# Altium schematic symbol library SCH - MPU - TI - TI AM62Px AMH.SchLib: 1 symbol
Pins are listed as number, name and electrical type; pins without a type are passive.

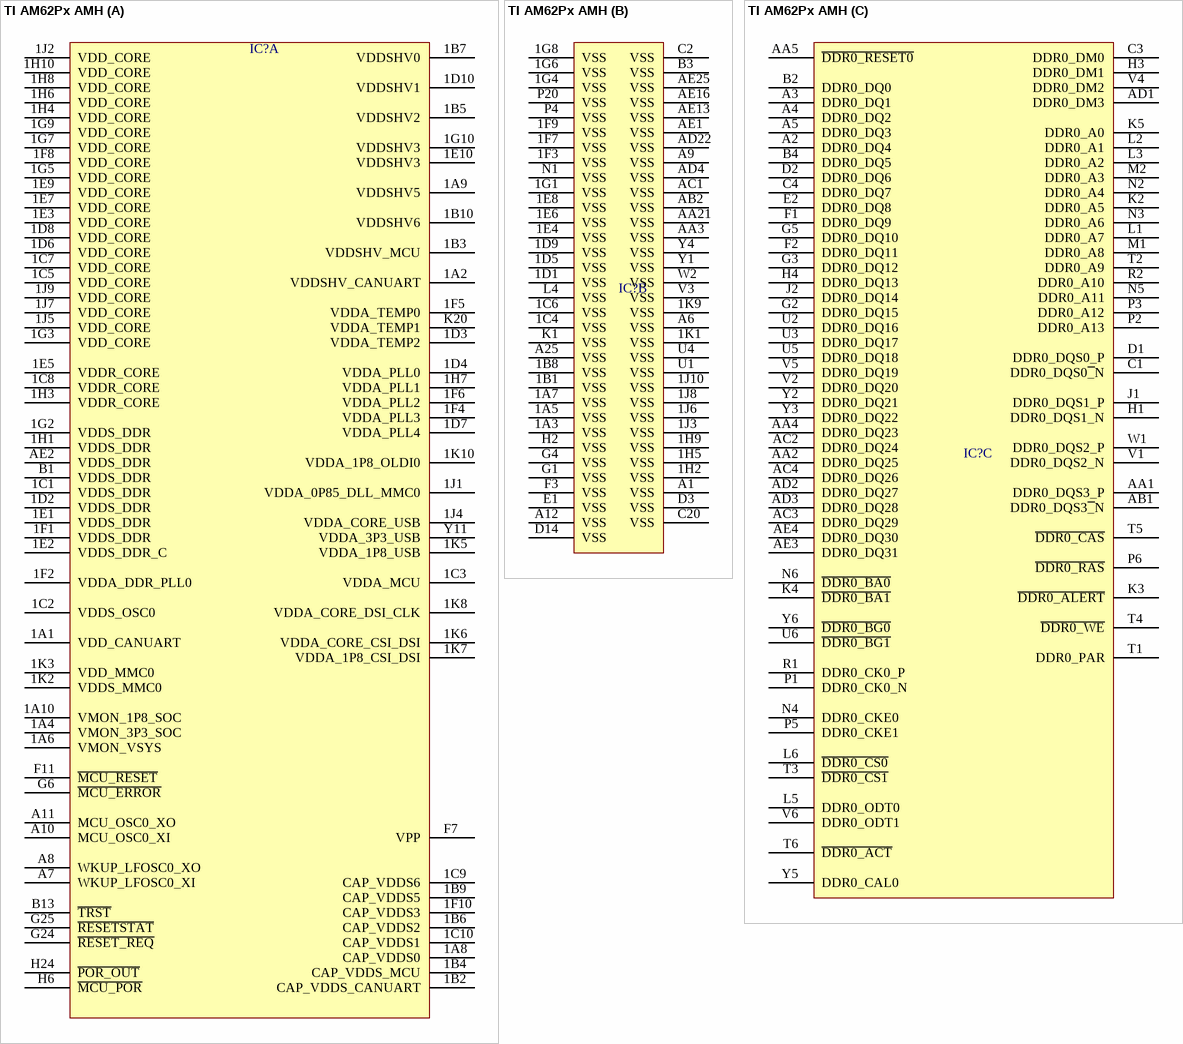
[diagram p0: symbol TI AM62Px AMH]

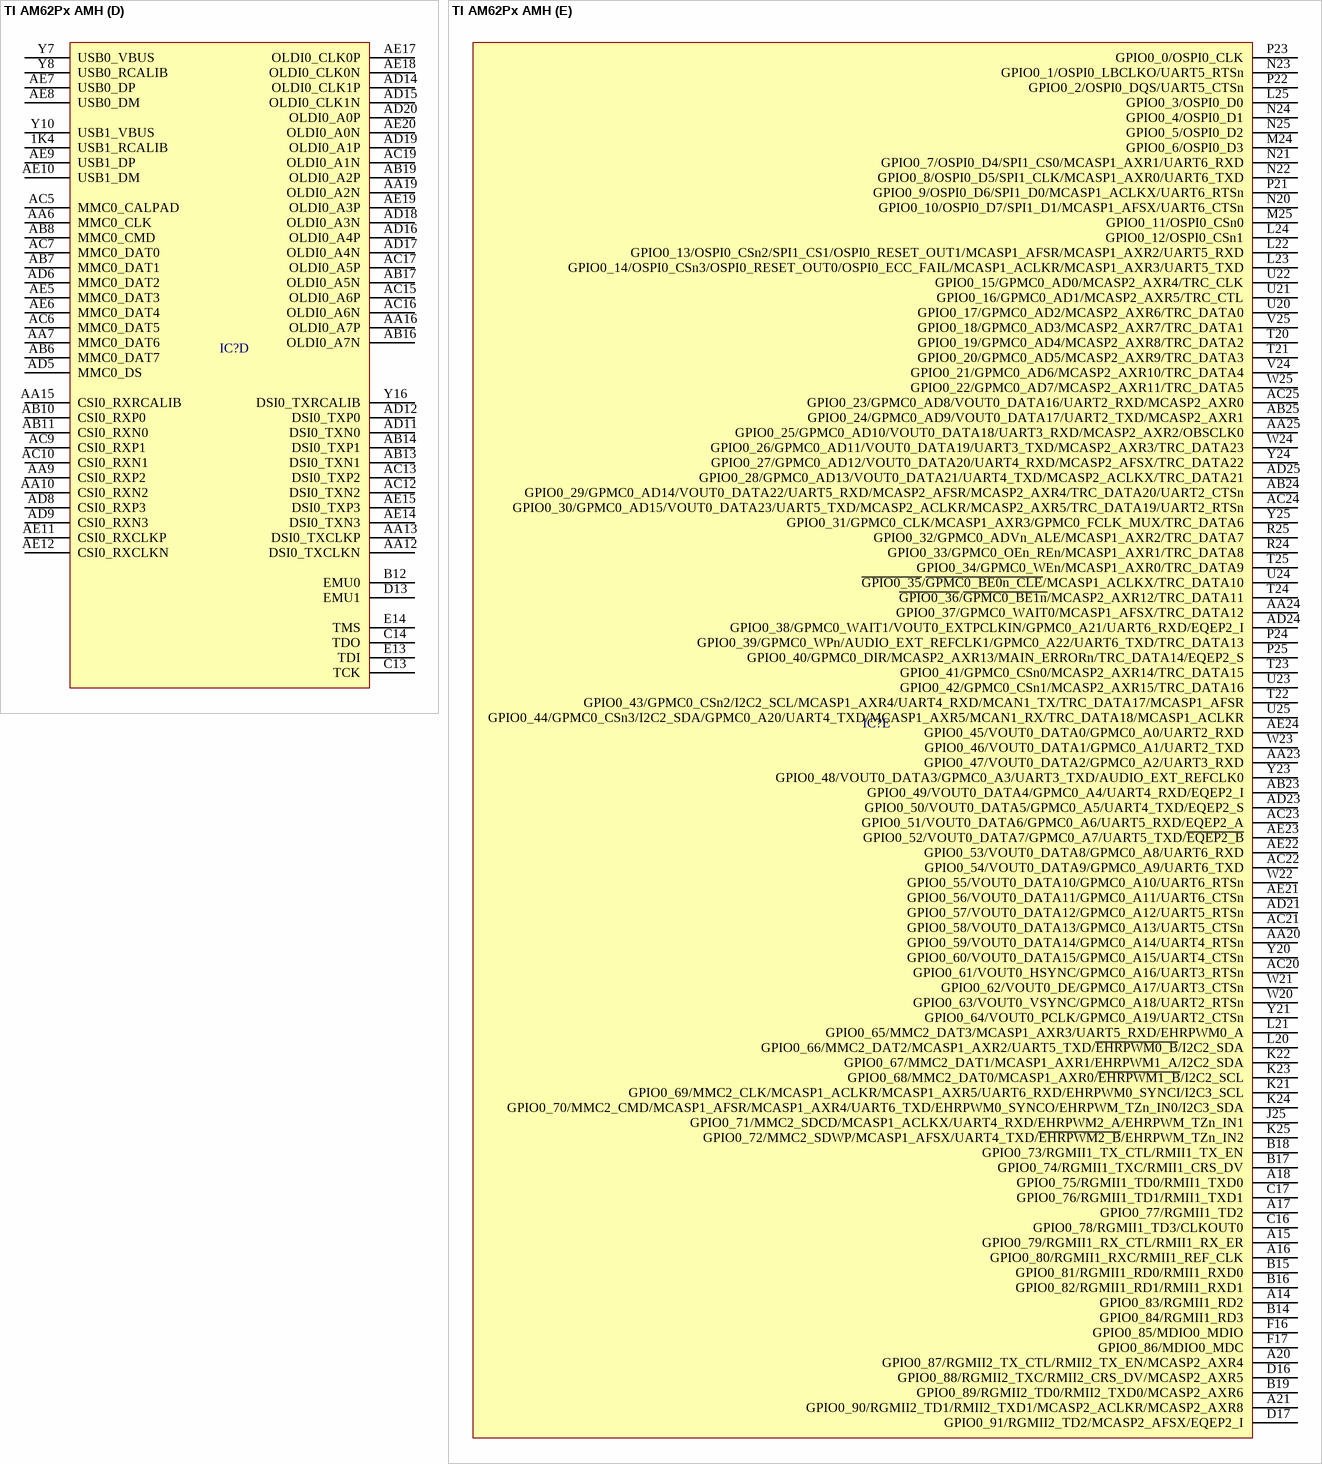
[diagram p1: symbol TI AM62Px AMH]

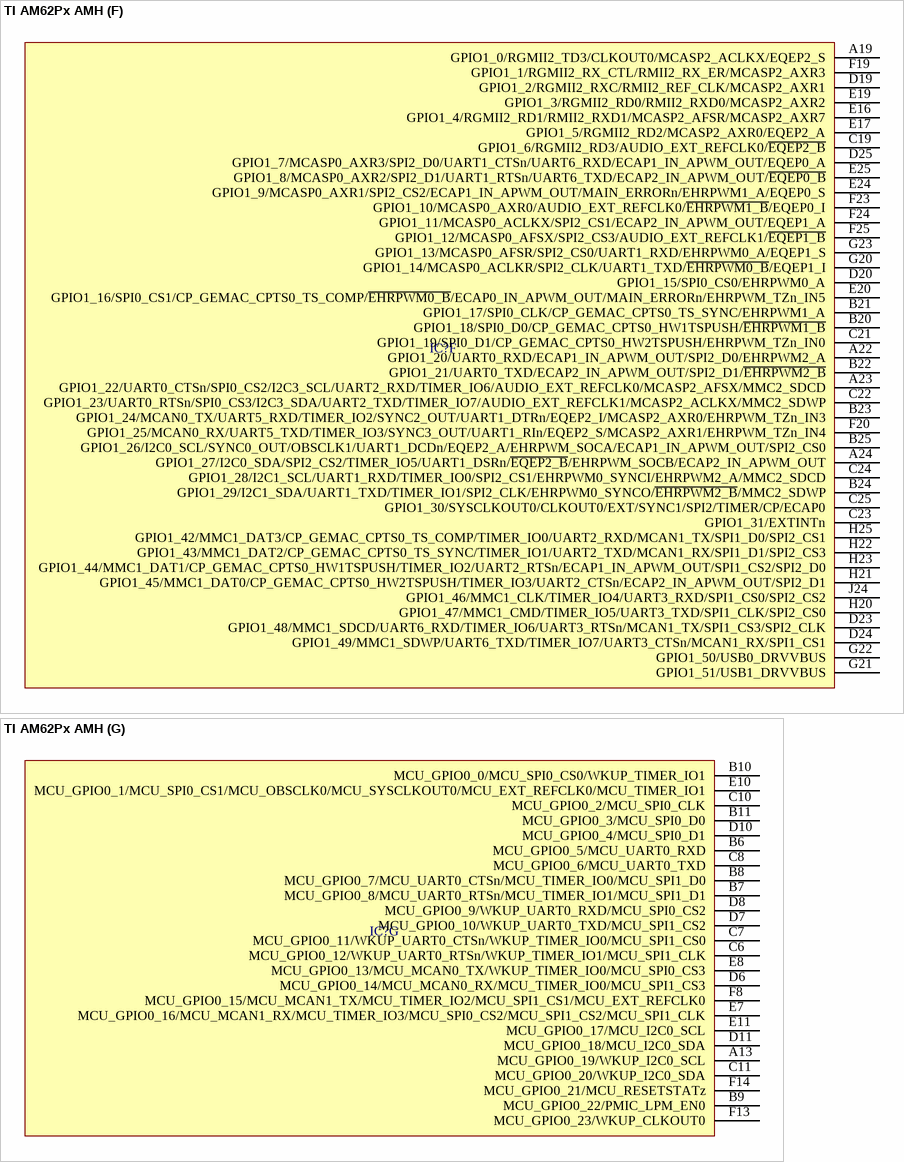
[diagram p2: symbol TI AM62Px AMH]

## TI AM62Px AMH
designator IC?
part A pins: 1A1 VDD_CANUART, 1A2 VDDSHV_CANUART, 1A4 VMON_3P3_SOC, 1A6 VMON_VSYS, 1A8 CAP_VDDS0, 1A9 VDDSHV5, 1A10 VMON_1P8_SOC, 1B2 CAP_VDDS_CANUART, 1B3 VDDSHV_MCU, 1B4 CAP_VDDS_MCU, 1B5 VDDSHV2, 1B6 CAP_VDDS2, 1B7 VDDSHV0, 1B9 CAP_VDDS5, 1B10 VDDSHV6, 1C1 VDDS_DDR, 1C2 VDDS_OSC0, 1C3 VDDA_MCU, 1C5 VDD_CORE, 1C7 VDD_CORE, 1C8 VDDR_CORE, 1C9 CAP_VDDS6, 1C10 CAP_VDDS1, 1D2 VDDS_DDR, 1D3 VDDA_TEMP2, 1D4 VDDA_PLL0, 1D6 VDD_CORE, 1D7 VDDA_PLL4, 1D8 VDD_CORE, 1D10 VDDSHV1, 1E1 VDDS_DDR, 1E2 VDDS_DDR_C, 1E3 VDD_CORE, 1E5 VDDR_CORE, 1E7 VDD_CORE, 1E9 VDD_CORE, 1E10 VDDSHV3, 1F1 VDDS_DDR, 1F2 VDDA_DDR_PLL0, 1F4 VDDA_PLL3, 1F5 VDDA_TEMP0, 1F6 VDDA_PLL2, 1F8 VDD_CORE, 1F10 CAP_VDDS3, 1G2 VDDS_DDR, 1G3 VDD_CORE, 1G5 VDD_CORE, 1G7 VDD_CORE, 1G9 VDD_CORE, 1G10 VDDSHV3, 1H1 VDDS_DDR, 1H3 VDDR_CORE, 1H4 VDD_CORE, 1H6 VDD_CORE, 1H7 VDDA_PLL1, 1H8 VDD_CORE, 1H10 VDD_CORE, 1J1 VDDA_0P85_DLL_MMC0, 1J2 VDD_CORE, 1J4 VDDA_CORE_USB, 1J5 VDD_CORE, 1J7 VDD_CORE, 1J9 VDD_CORE, 1K2 VDDS_MMC0, 1K3 VDD_MMC0, 1K5 VDDA_1P8_USB, 1K6 VDDA_CORE_CSI_DSI, 1K7 VDDA_1P8_CSI_DSI, 1K8 VDDA_CORE_DSI_CLK, 1K10 VDDA_1P8_OLDI0, A7 WKUP_LFOSC0_XI, A8 WKUP_LFOSC0_XO, A10 MCU_OSC0_XI, A11 MCU_OSC0_XO, AE2 VDDS_DDR, B1 VDDS_DDR, B13 ~{TRST}, F7 VPP, F11 ~{MCU_RESET}, G6 ~{MCU_ERROR}, G24 ~{RESET_REQ}, G25 ~{RESETSTAT}, H6 ~{MCU_POR}, H24 ~{POR_OUT}, K20 VDDA_TEMP1, Y11 VDDA_3P3_USB
part B pins: 1A3 VSS, 1A5 VSS, 1A7 VSS, 1B1 VSS, 1B8 VSS, 1C4 VSS, 1C6 VSS, 1D1 VSS, 1D5 VSS, 1D9 VSS, 1E4 VSS, 1E6 VSS, 1E8 VSS, 1F3 VSS, 1F7 VSS, 1F9 VSS, 1G1 VSS, 1G4 VSS, 1G6 VSS, 1G8 VSS, 1H2 VSS, 1H5 VSS, 1H9 VSS, 1J3 VSS, 1J6 VSS, 1J8 VSS, 1J10 VSS, 1K1 VSS, 1K9 VSS, A1 VSS, A6 VSS, A9 VSS, A12 VSS, A25 VSS, AA3 VSS, AA21 VSS, AB2 VSS, AC1 VSS, AD4 VSS, AD22 VSS, AE1 VSS, AE13 VSS, AE16 VSS, AE25 VSS, B3 VSS, C2 VSS, C20 VSS, D3 VSS, D14 VSS, E1 VSS, F3 VSS, G1 VSS, G4 VSS, H2 VSS, K1 VSS, L4 VSS, N1 VSS, P4 VSS, P20 VSS, U1 VSS, U4 VSS, V3 VSS, W2 VSS, Y1 VSS, Y4 VSS
part C pins: A2 DDR0_DQ4, A3 DDR0_DQ1, A4 DDR0_DQ2, A5 DDR0_DQ3, AA1 DDR0_DQS3_P, AA2 DDR0_DQ25, AA4 DDR0_DQ23, AA5 ~{DDR0_RESET0}, AB1 DDR0_DQS3~{_}N, AC2 DDR0_DQ24, AC3 DDR0_DQ29, AC4 DDR0_DQ26, AD1 DDR0_DM3, AD2 DDR0_DQ27, AD3 DDR0_DQ28, AE3 DDR0_DQ31, AE4 DDR0_DQ30, B2 DDR0_DQ0, B4 DDR0_DQ5, C1 DDR0_DQS0~{_}N, C3 DDR0_DM0, C4 DDR0_DQ7, D1 DDR0_DQS0_P, D2 DDR0_DQ6, E2 DDR0_DQ8, F1 DDR0_DQ9, F2 DDR0_DQ11, G2 DDR0_DQ15, G3 DDR0_DQ12, G5 DDR0_DQ10, H1 DDR0_DQS1_N, H3 DDR0_DM1, H4 DDR0_DQ13, J1 DDR0_DQS1_P, J2 DDR0_DQ14, K2 DDR0_A5, K3 ~{DDR0_ALERT}, K4 ~{DDR0_BA1}, K5 DDR0_A0, L1 DDR0_A7, L2 DDR0_A1, L3 DDR0_A2, L5 DDR0_ODT0, L6 ~{DDR0_CS0}, M1 DDR0_A8, M2 DDR0_A3, N2 DDR0_A4, N3 DDR0_A6, N4 DDR0_CKE0, N5 DDR0_A11, N6 ~{DDR0_BA0}, P1 DDR0_CK0_N, P2 DDR0_A13, P3 DDR0_A12, P5 DDR0_CKE1, P6 ~{DDR0_RAS}, R1 DDR0_CK0_P, R2 DDR0_A10, T1 DDR0_PAR, T2 DDR0_A9, T3 ~{DDR0_CS1}, T4 ~{DDR0_WE}, T5 ~{DDR0_CAS}, T6 ~{DDR0_ACT}, U2 DDR0_DQ16, U3 DDR0_DQ17, U5 DDR0_DQ18, U6 ~{DDR0_BG1}, V1 DDR0_DQS2_N, V2 DDR0_DQ20, V4 DDR0_DM2, V5 DDR0_DQ19, V6 DDR0_ODT1, W1 DDR0_DQS2_P, Y2 DDR0_DQ21, Y3 DDR0_DQ22, Y5 DDR0_CAL0, Y6 ~{DDR0_BG0}
part D pins: 1K4 USB1_RCALIB, AA6 MMC0_CLK, AA7 MMC0_DAT6, AA9 CSI0_RXP2, AA10 CSI0_RXN2, AA12 DSI0_TXCLKN, AA13 DSI0_TXCLKP, AA15 CSI0_RXRCALIB, AA16 OLDI0_A7P, AA19 OLDI0_A2N, AB6 MMC0_DAT7, AB7 MMC0_DAT1, AB8 MMC0_CMD, AB10 CSI0_RXP0, AB11 CSI0_RXN0, AB13 DSI0_TXN1, AB14 DSI0_TXP1, AB16 OLDI0_A7N, AB17 OLDI0_A5N, AB19 OLDI0_A2P, AC5 MMC0_CALPAD, AC6 MMC0_DAT5, AC7 MMC0_DAT0, AC9 CSI0_RXP1, AC10 CSI0_RXN1, AC12 DSI0_TXN2, AC13 DSI0_TXP2, AC15 OLDI0_A6P, AC16 OLDI0_A6N, AC17 OLDI0_A5P, AC19 OLDI0_A1N, AD5 MMC0_DS, AD6 MMC0_DAT2, AD8 CSI0_RXP3, AD9 CSI0_RXN3, AD11 DSI0_TXN0, AD12 DSI0_TXP0, AD14 OLDI0_CLK1P, AD15 OLDI0_CLK1N, AD16 OLDI0_A4P, AD17 OLDI0_A4N, AD18 OLDI0_A3N, AD19 OLDI0_A1P, AD20 OLDI0_A0P, AE5 MMC0_DAT3, AE6 MMC0_DAT4, AE7 USB0_DP, AE8 USB0_DM, AE9 USB1_DP, AE10 USB1_DM, AE11 CSI0_RXCLKP, AE12 CSI0_RXCLKN, AE14 DSI0_TXN3, AE15 DSI0_TXP3, AE17 OLDI0_CLK0P, AE18 OLDI0_CLK0N, AE19 OLDI0_A3P, AE20 OLDI0_A0N, B12 EMU0, C13 TCK, C14 TDO, D13 EMU1, E13 TDI, E14 TMS, Y7 USB0_VBUS, Y8 USB0_RCALIB, Y10 USB1_VBUS, Y16 DSI0_TXRCALIB
part E pins: A14 GPIO0_83/RGMII1_RD2, A15 GPIO0_79/RGMII1_RX_CTL/RMII1_RX_ER, A16 GPIO0_80/RGMII1_RXC/RMII1_REF_CLK, A17 GPIO0_77/RGMII1_TD2, A18 GPIO0_75/RGMII1_TD0/RMII1_TXD0, A20 GPIO0_87/RGMII2_TX_CTL/RMII2_TX_EN/MCASP2_AXR4, A21 GPIO0_90/RGMII2_TD1/RMII2_TXD1/MCASP2_ACLKR/MCASP2_AXR8, AA20 GPIO0_59/VOUT0_DATA14/GPMC0_A14/UART4_RTSn, AA23 GPIO0_47/VOUT0_DATA2/GPMC0_A2/UART3_RXD, AA24 GPIO0_37/GPMC0_WAIT0/MCASP1_AFSX/TRC_DATA12, AA25 GPIO0_25/GPMC0_AD10/VOUT0_DATA18/UART3_RXD/MCASP2_AXR2/OBSCLK0, AB23 GPIO0_49/VOUT0_DATA4/GPMC0_A4/UART4_RXD/EQEP2_I, AB24 GPIO0_29/GPMC0_AD14/VOUT0_DATA22/UART5_RXD/MCASP2_AFSR/MCASP2_AXR4/TRC_DATA20/UART2_CTSn, AB25 GPIO0_24/GPMC0_AD9/VOUT0_DATA17/UART2_TXD/MCASP2_AXR1, AC20 GPIO0_61/VOUT0_HSYNC/GPMC0_A16/UART3_RTSn, AC21 GPIO0_58/VOUT0_DATA13/GPMC0_A13/UART5_CTSn, AC22 GPIO0_54/VOUT0_DATA9/GPMC0_A9/UART6_TXD, AC23 GPIO0_51/VOUT0_DATA6/GPMC0_A6/UART5_RXD/EQEP2_A, AC24 GPIO0_30/GPMC0_AD15/VOUT0_DATA23/UART5_TXD/MCASP2_ACLKR/MCASP2_AXR5/TRC_DATA19/UART2_RTSn, AC25 GPIO0_23/GPMC0_AD8/VOUT0_DATA16/UART2_RXD/MCASP2_AXR0, AD21 GPIO0_57/VOUT0_DATA12/GPMC0_A12/UART5_RTSn, AD23 GPIO0_50/VOUT0_DATA5/GPMC0_A5/UART4_TXD/EQEP2_S, AD24 GPIO0_38/GPMC0_WAIT1/VOUT0_EXTPCLKIN/GPMC0_A21/UART6_RXD/EQEP2_I, AD25 GPIO0_28/GPMC0_AD13/VOUT0_DATA21/UART4_TXD/MCASP2_ACLKX/TRC_DATA21, AE21 GPIO0_56/VOUT0_DATA11/GPMC0_A11/UART6_CTSn, AE22 GPIO0_53/VOUT0_DATA8/GPMC0_A8/UART6_RXD, AE23 GPIO0_52/VOUT0_DATA7/GPMC0_A7/UART5_TXD/~{EQEP2_B}, AE24 GPIO0_45/VOUT0_DATA0/GPMC0_A0/UART2_RXD, B14 GPIO0_84/RGMII1_RD3, B15 GPIO0_81/RGMII1_RD0/RMII1_RXD0, B16 GPIO0_82/RGMII1_RD1/RMII1_RXD1, B17 GPIO0_74/RGMII1_TXC/RMII1_CRS_DV, B18 GPIO0_73/RGMII1_TX_CTL/RMII1_TX_EN, B19 GPIO0_89/RGMII2_TD0/RMII2_TXD0/MCASP2_AXR6, C16 GPIO0_78/RGMII1_TD3/CLKOUT0, C17 GPIO0_76/RGMII1_TD1/RMII1_TXD1, D16 GPIO0_88/RGMII2_TXC/RMII2_CRS_DV/MCASP2_AXR5, D17 GPIO0_91/RGMII2_TD2/MCASP2_AFSX/EQEP2_I, F16 GPIO0_85/MDIO0_MDIO, F17 GPIO0_86/MDIO0_MDC, J25 GPIO0_71/MMC2_SDCD/MCASP1_ACLKX/UART4_RXD/EHRPWM2_A/EHRPWM_TZn_IN1, K21 GPIO0_69/MMC2_CLK/MCASP1_ACLKR/MCASP1_AXR5/UART6_RXD/EHRPWM0_SYNCI/I2C3_SCL, K22 GPIO0_67/MMC2_DAT1/MCASP1_AXR1/EHRPWM1_A/I2C2_SDA, K23 GPIO0_68/MMC2_DAT0/MCASP1_AXR0/~{EHRPWM1_B}/I2C2_SCL, K24 GPIO0_70/MMC2_CMD/MCASP1_AFSR/MCASP1_AXR4/UART6_TXD/EHRPWM0_SYNCO/EHRPWM_TZn_IN0/I2C3_SDA, K25 GPIO0_72/MMC2_SDWP/MCASP1_AFSX/UART4_TXD/~{EHRPWM2_B}/EHRPWM_TZn_IN2, L20 GPIO0_66/MMC2_DAT2/MCASP1_AXR2/UART5_TXD/~{EHRPWM0_B}/I2C2_SDA, L21 GPIO0_65/MMC2_DAT3/MCASP1_AXR3/UART5_RXD/EHRPWM0_A, L22 GPIO0_13/OSPI0_CSn2/SPI1_CS1/OSPI0_RESET_OUT1/MCASP1_AFSR/MCASP1_AXR2/UART5_RXD, L23 GPIO0_14/OSPI0_CSn3/OSPI0_RESET_OUT0/OSPI0_ECC_FAIL/MCASP1_ACLKR/MCASP1_AXR3/UART5_TXD, L24 GPIO0_12/OSPI0_CSn1, L25 GPIO0_3/OSPI0_D0, M24 GPIO0_6/OSPI0_D3, M25 GPIO0_11/OSPI0_CSn0, N20 GPIO0_10/OSPI0_D7/SPI1_D1/MCASP1_AFSX/UART6_CTSn, N21 GPIO0_7/OSPI0_D4/SPI1_CS0/MCASP1_AXR1/UART6_RXD, N22 GPIO0_8/OSPI0_D5/SPI1_CLK/MCASP1_AXR0/UART6_TXD, N23 GPIO0_1/OSPI0_LBCLKO/UART5_RTSn, N24 GPIO0_4/OSPI0_D1, N25 GPIO0_5/OSPI0_D2, P21 GPIO0_9/OSPI0_D6/SPI1_D0/MCASP1_ACLKX/UART6_RTSn, P22 GPIO0_2/OSPI0_DQS/UART5_CTSn, P23 GPIO0_0/OSPI0_CLK, P24 GPIO0_39/GPMC0_WPn/AUDIO_EXT_REFCLK1/GPMC0_A22/UART6_TXD/TRC_DATA13, P25 GPIO0_40/GPMC0_DIR/MCASP2_AXR13/MAIN_ERRORn/TRC_DATA14/EQEP2_S, R24 GPIO0_33/GPMC0_OEn_REn/MCASP1_AXR1/TRC_DATA8, R25 GPIO0_32/GPMC0_ADVn_ALE/MCASP1_AXR2/TRC_DATA7, T20 GPIO0_19/GPMC0_AD4/MCASP2_AXR8/TRC_DATA2, T21 GPIO0_20/GPMC0_AD5/MCASP2_AXR9/TRC_DATA3, T22 GPIO0_43/GPMC0_CSn2/I2C2_SCL/MCASP1_AXR4/UART4_RXD/MCAN1_TX/TRC_DATA17/MCASP1_AFSR, T23 GPIO0_41/GPMC0_CSn0/MCASP2_AXR14/TRC_DATA15, T24 ~{GPIO0_36}/~{GPMC0_BE1n}/MCASP2_AXR12/TRC_DATA11, T25 GPIO0_34/GPMC0_WEn/MCASP1_AXR0/TRC_DATA9, U20 GPIO0_17/GPMC0_AD2/MCASP2_AXR6/TRC_DATA0, U21 GPIO0_16/GPMC0_AD1/MCASP2_AXR5/TRC_CTL, U22 GPIO0_15/GPMC0_AD0/MCASP2_AXR4/TRC_CLK, U23 GPIO0_42/GPMC0_CSn1/MCASP2_AXR15/TRC_DATA16, U24 ~{GPIO0_35}/~{GPMC0_BE0n_CLE}/MCASP1_ACLKX/TRC_DATA10, U25 GPIO0_44/GPMC0_CSn3/I2C2_SDA/GPMC0_A20/UART4_TXD/MCASP1_AXR5/MCAN1_RX/TRC_DATA18/MCASP1_ACLKR, V24 GPIO0_21/GPMC0_AD6/MCASP2_AXR10/TRC_DATA4, V25 GPIO0_18/GPMC0_AD3/MCASP2_AXR7/TRC_DATA1, W20 GPIO0_63/VOUT0_VSYNC/GPMC0_A18/UART2_RTSn, W21 GPIO0_62/VOUT0_DE/GPMC0_A17/UART3_CTSn, W22 GPIO0_55/VOUT0_DATA10/GPMC0_A10/UART6_RTSn, W23 GPIO0_46/VOUT0_DATA1/GPMC0_A1/UART2_TXD, W24 GPIO0_26/GPMC0_AD11/VOUT0_DATA19/UART3_TXD/MCASP2_AXR3/TRC_DATA23, W25 GPIO0_22/GPMC0_AD7/MCASP2_AXR11/TRC_DATA5, Y20 GPIO0_60/VOUT0_DATA15/GPMC0_A15/UART4_CTSn, Y21 GPIO0_64/VOUT0_PCLK/GPMC0_A19/UART2_CTSn, Y23 GPIO0_48/VOUT0_DATA3/GPMC0_A3/UART3_TXD/AUDIO_EXT_REFCLK0, Y24 GPIO0_27/GPMC0_AD12/VOUT0_DATA20/UART4_RXD/MCASP2_AFSX/TRC_DATA22, Y25 GPIO0_31/GPMC0_CLK/MCASP1_AXR3/GPMC0_FCLK_MUX/TRC_DATA6
part F pins: A19 GPIO1_0/RGMII2_TD3/CLKOUT0/MCASP2_ACLKX/EQEP2_S, A22 GPIO1_20/UART0_RXD/ECAP1_IN_APWM_OUT/SPI2_D0/EHRPWM2_A, A23 GPIO1_22/UART0_CTSn/SPI0_CS2/I2C3_SCL/UART2_RXD/TIMER_IO6/AUDIO_EXT_REFCLK0/MCASP2_AFSX/MMC2_SDCD, A24 GPIO1_27/I2C0_SDA/SPI2_CS2/TIMER_IO5/UART1_DSRn/~{EQEP2_B}/EHRPWM_SOCB/ECAP2_IN_APWM_OUT, B20 GPIO1_18/SPI0_D0/CP_GEMAC_CPTS0_HW1TSPUSH/~{EHRPWM1_B}, B21 GPIO1_17/SPI0_CLK/CP_GEMAC_CPTS0_TS_SYNC/EHRPWM1_A, B22 GPIO1_21/UART0_TXD/ECAP2_IN_APWM_OUT/SPI2_D1/~{EHRPWM2_B}, B23 GPIO1_24/MCAN0_TX/UART5_RXD/TIMER_IO2/SYNC2_OUT/UART1_DTRn/EQEP2_I/MCASP2_AXR0/EHRPWM_TZn_IN3, B24 GPIO1_29/I2C1_SDA/UART1_TXD/TIMER_IO1/SPI2_CLK/EHRPWM0_SYNCO/~{EHRPWM2_B}/MMC2_SDWP, B25 GPIO1_26/I2C0_SCL/SYNC0_OUT/OBSCLK1/UART1_DCDn/EQEP2_A/EHRPWM_SOCA/ECAP1_IN_APWM_OUT/SPI2_CS0, C19 GPIO1_6/RGMII2_RD3/AUDIO_EXT_REFCLK0/~{EQEP2_B}, C21 GPIO1_19/SPI0_D1/CP_GEMAC_CPTS0_HW2TSPUSH/EHRPWM_TZn_IN0, C22 GPIO1_23/UART0_RTSn/SPI0_CS3/I2C3_SDA/UART2_TXD/TIMER_IO7/AUDIO_EXT_REFCLK1/MCASP2_ACLKX/MMC2_SDWP, C23 GPIO1_31/EXTINTn, C24 GPIO1_28/I2C1_SCL/UART1_RXD/TIMER_IO0/SPI2_CS1/EHRPWM0_SYNCI/EHRPWM2_A/MMC2_SDCD, C25 GPIO1_30/SYSCLKOUT0/CLKOUT0/EXT/SYNC1/SPI2/TIMER/CP/ECAP0, D19 GPIO1_2/RGMII2_RXC/RMII2_REF_CLK/MCASP2_AXR1, D20 GPIO1_15/SPI0_CS0/EHRPWM0_A, D23 GPIO1_48/MMC1_SDCD/UART6_RXD/TIMER_IO6/UART3_RTSn/MCAN1_TX/SPI1_CS3/SPI2_CLK, D24 GPIO1_49/MMC1_SDWP/UART6_TXD/TIMER_IO7/UART3_CTSn/MCAN1_RX/SPI1_CS1, D25 GPIO1_7/MCASP0_AXR3/SPI2_D0/UART1_CTSn/UART6_RXD/ECAP1_IN_APWM_OUT/EQEP0_A, E16 GPIO1_4/RGMII2_RD1/RMII2_RXD1/MCASP2_AFSR/MCASP2_AXR7, E17 GPIO1_5/RGMII2_RD2/MCASP2_AXR0/EQEP2_A, E19 GPIO1_3/RGMII2_RD0/RMII2_RXD0/MCASP2_AXR2, E20 GPIO1_16/SPI0_CS1/CP_GEMAC_CPTS0_TS_COMP/~{EHRPWM0_B}/ECAP0_IN_APWM_OUT/MAIN_ERRORn/EHRPWM_TZn_IN5, E24 GPIO1_9/MCASP0_AXR1/SPI2_CS2/ECAP1_IN_APWM_OUT/MAIN_ERRORn/EHRPWM1_A/EQEP0_S, E25 GPIO1_8/MCASP0_AXR2/SPI2_D1/UART1_RTSn/UART6_TXD/ECAP2_IN_APWM_OUT/~{EQEP0_B}, F19 GPIO1_1/RGMII2_RX_CTL/RMII2_RX_ER/MCASP2_AXR3, F20 GPIO1_25/MCAN0_RX/UART5_TXD/TIMER_IO3/SYNC3_OUT/UART1_RIn/EQEP2_S/MCASP2_AXR1/EHRPWM_TZn_IN4, F23 GPIO1_10/MCASP0_AXR0/AUDIO_EXT_REFCLK0/~{EHRPWM1_B}/EQEP0_I, F24 GPIO1_11/MCASP0_ACLKX/SPI2_CS1/ECAP2_IN_APWM_OUT/EQEP1_A, F25 GPIO1_12/MCASP0_AFSX/SPI2_CS3/AUDIO_EXT_REFCLK1/~{EQEP1_B}, G20 GPIO1_14/MCASP0_ACLKR/SPI2_CLK/UART1_TXD/~{EHRPWM0_B}/EQEP1_I, G21 GPIO1_51/USB1_DRVVBUS, G22 GPIO1_50/USB0_DRVVBUS, G23 GPIO1_13/MCASP0_AFSR/SPI2_CS0/UART1_RXD/EHRPWM0_A/EQEP1_S, H20 GPIO1_47/MMC1_CMD/TIMER_IO5/UART3_TXD/SPI1_CLK/SPI2_CS0, H21 GPIO1_45/MMC1_DAT0/CP_GEMAC_CPTS0_HW2TSPUSH/TIMER_IO3/UART2_CTSn/ECAP2_IN_APWM_OUT/SPI2_D1, H22 GPIO1_43/MMC1_DAT2/CP_GEMAC_CPTS0_TS_SYNC/TIMER_IO1/UART2_TXD/MCAN1_RX/SPI1_D1/SPI2_CS3, H23 GPIO1_44/MMC1_DAT1/CP_GEMAC_CPTS0_HW1TSPUSH/TIMER_IO2/UART2_RTSn/ECAP1_IN_APWM_OUT/SPI1_CS2/SPI2_D0, H25 GPIO1_42/MMC1_DAT3/CP_GEMAC_CPTS0_TS_COMP/TIMER_IO0/UART2_RXD/MCAN1_TX/SPI1_D0/SPI2_CS1, J24 GPIO1_46/MMC1_CLK/TIMER_IO4/UART3_RXD/SPI1_CS0/SPI2_CS2
part G pins: A13 MCU_GPIO0_19/WKUP_I2C0_SCL, B6 MCU_GPIO0_5/MCU_UART0_RXD, B7 MCU_GPIO0_8/MCU_UART0_RTSn/MCU_TIMER_IO1/MCU_SPI1_D1, B8 MCU_GPIO0_7/MCU_UART0_CTSn/MCU_TIMER_IO0/MCU_SPI1_D0, B9 MCU_GPIO0_22/PMIC_LPM_EN0, B10 MCU_GPIO0_0/MCU_SPI0_CS0/WKUP_TIMER_IO1, B11 MCU_GPIO0_3/MCU_SPI0_D0, C6 MCU_GPIO0_12/WKUP_UART0_RTSn/WKUP_TIMER_IO1/MCU_SPI1_CLK, C7 MCU_GPIO0_11/WKUP_UART0_CTSn/WKUP_TIMER_IO0/MCU_SPI1_CS0, C8 MCU_GPIO0_6/MCU_UART0_TXD, C10 MCU_GPIO0_2/MCU_SPI0_CLK, C11 MCU_GPIO0_20/WKUP_I2C0_SDA, D6 MCU_GPIO0_14/MCU_MCAN0_RX/MCU_TIMER_IO0/MCU_SPI1_CS3, D7 MCU_GPIO0_10/WKUP_UART0_TXD/MCU_SPI1_CS2, D8 MCU_GPIO0_9/WKUP_UART0_RXD/MCU_SPI0_CS2, D10 MCU_GPIO0_4/MCU_SPI0_D1, D11 MCU_GPIO0_18/MCU_I2C0_SDA, E7 MCU_GPIO0_16/MCU_MCAN1_RX/MCU_TIMER_IO3/MCU_SPI0_CS2/MCU_SPI1_CS2/MCU_SPI1_CLK, E8 MCU_GPIO0_13/MCU_MCAN0_TX/WKUP_TIMER_IO0/MCU_SPI0_CS3, E10 MCU_GPIO0_1/MCU_SPI0_CS1/MCU_OBSCLK0/MCU_SYSCLKOUT0/MCU_EXT_REFCLK0/MCU_TIMER_IO1, E11 MCU_GPIO0_17/MCU_I2C0_SCL, F8 MCU_GPIO0_15/MCU_MCAN1_TX/MCU_TIMER_IO2/MCU_SPI1_CS1/MCU_EXT_REFCLK0, F13 MCU_GPIO0_23/WKUP_CLKOUT0, F14 MCU_GPIO0_21/MCU_RESETSTATz